# Altium schematic symbol library Basic.SchLib: 23 symbols
Pins are listed as number, name and electrical type; pins without a type are passive.

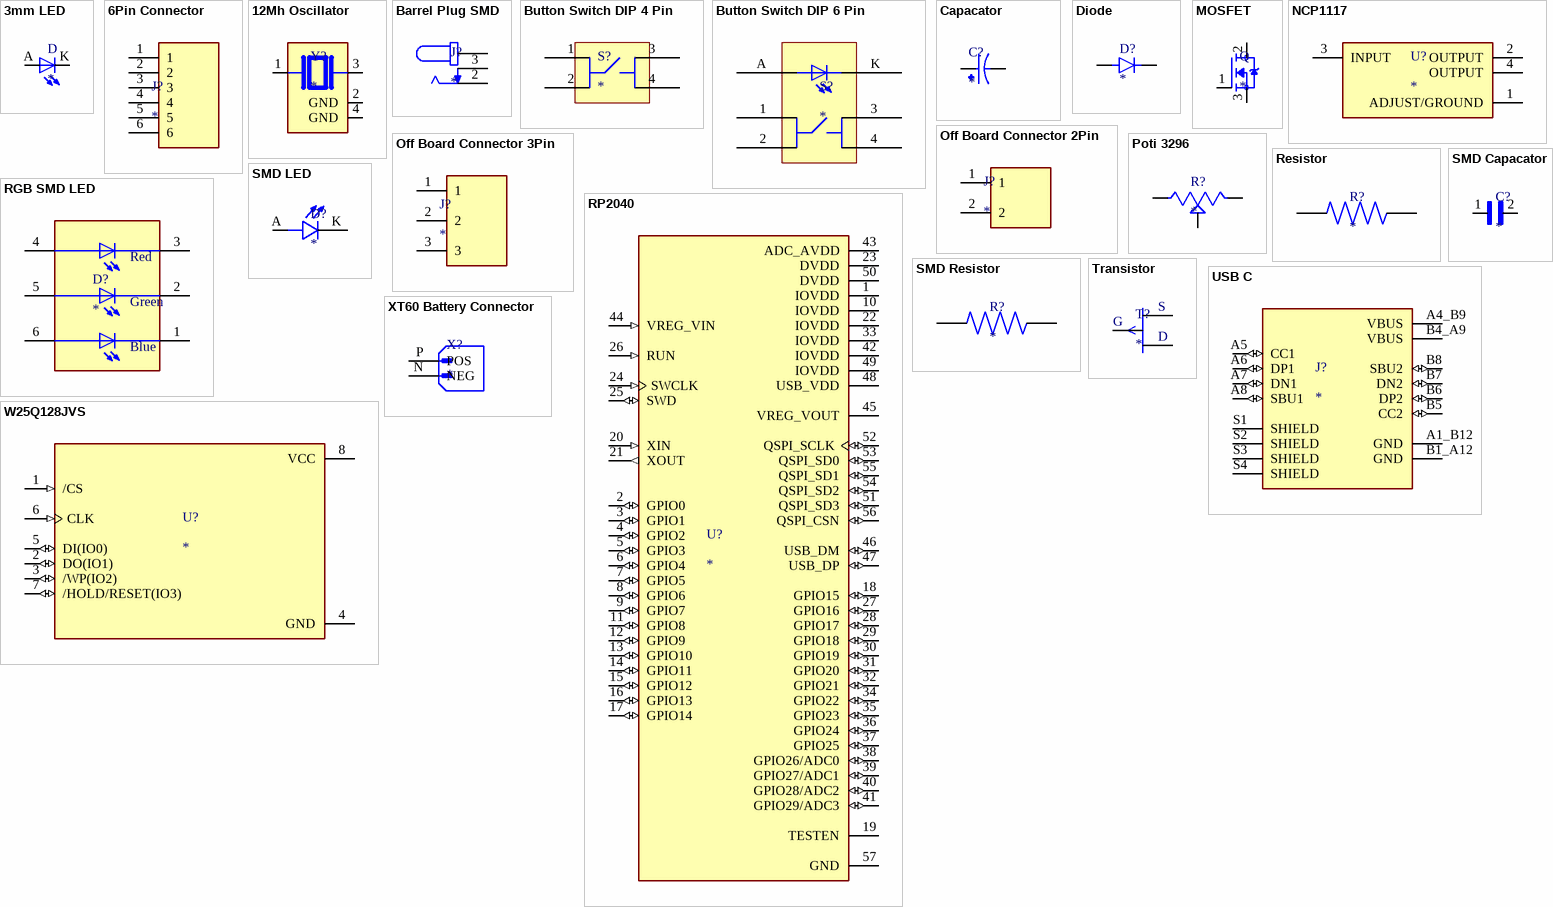
[diagram p0: symbols 3mm LED to XT60 Battery Connector]

## 3mm LED
designator D
Blue, Red, Yellow, Green, White
footprint 3mm LED (Blue, Red, Yellow, Green, White)
pins: A, K

## 6Pin Connector
designator J?
footprint 6Pin Connector
pins: 1, 2, 3, 4, 5, 6

## 12Mh Oscillator
designator Y?
footprint 12Mh Oscillator
pins: 1, 2 GND (power), 3 2, 4 GND (power)

## Barrel Plug SMD
designator J?
footprint Barrel Plug SMD
pins: 1A 1, 1B 1, 2, 3

## Button Switch DIP 4 Pin
designator S?
footprint Button Switch DIP 4 Pin
pins: 1, 2, 3, 4

## Button Switch DIP 6 Pin
designator S?
footprint Button Switch DIP 6 Pin
pins: 1, 2, 3, 4, A, K

## Capacator
designator C?
footprint Capacator
pins: N, P

## Diode
designator D?
footprint Diode
pins: A, K

## MOSFET
designator Q
footprint MOSFET
pins: 1 G, 2 D, 3 S

## NCP1117
designator U?
footprint NCP1117
pins: 1 ADJUST/GROUND, 2 OUTPUT (power), 3 INPUT (power), 4 OUTPUT (power)

## Off Board Connector 2Pin
designator J?
Screw Connector
footprint OFF BORAD CONNECTOR 2PIN
pins: 1, 2

## Off Board Connector 3Pin
designator J?
Screw Connector
footprint OFF BORAD CONNECTOR 3PIN
pins: 1, 2, 3

## Poti 3296
designator R?
footprint Poti 3296
pins: 1 CCW, 2 WIPER, 3 CW

## Resistor
designator R?
footprint Resistor
pins: 1, 2

## RGB SMD LED
designator D?
footprint SMD RGB LED
pins: 1, 2, 3, 4, 5, 6
text: Red; Green; Blue

## RP2040
designator U?
footprint RP2040
pins: 1 IOVDD (power), 2 GPIO0 (io), 3 GPIO1 (io), 4 GPIO2 (io), 5 GPIO3 (io), 6 GPIO4 (io), 7 GPIO5 (io), 8 GPIO6 (io), 9 GPIO7 (io), 10 IOVDD (power), 11 GPIO8 (io), 12 GPIO9 (io), 13 GPIO10 (io), 14 GPIO11 (io), 15 GPIO12 (io), 16 GPIO13 (io), 17 GPIO14 (io), 18 GPIO15 (io), 19 TESTEN, 20 XIN (in), 21 XOUT (out), 22 IOVDD (power), 23 DVDD (power), 24 SWCLK (in), 25 SWD (io), 26 RUN (in), 27 GPIO16 (io), 28 GPIO17 (io), 29 GPIO18 (io), 30 GPIO19 (io), 31 GPIO20 (io), 32 GPIO21 (io), 33 IOVDD (power), 34 GPIO22 (io), 35 GPIO23 (io), 36 GPIO24 (io), 37 GPIO25 (io), 38 GPIO26/ADC0 (io), 39 GPIO27/ADC1 (io), 40 GPIO28/ADC2 (io), 41 GPIO29/ADC3 (io), 42 IOVDD (power), 43 ADC_AVDD (power), 44 VREG_VIN (in), 45 VREG_VOUT (power), 46 USB_DM (io), 47 USB_DP (io), 48 USB_VDD (power), 49 IOVDD (power), 50 DVDD (power), 51 QSPI_SD3 (io), 52 QSPI_SCLK (io), 53 QSPI_SD0 (io), 54 QSPI_SD2 (io), 55 QSPI_SD1 (io), 56 QSPI_CSN (io), 57 GND (power)

## SMD Capacator
designator C?
footprint SMD Capacator
pins: 1, 2

## SMD LED
designator D?
footprint SMD LED
pins: A, K C

## SMD Resistor
designator R?
footprint SMD Resistor
pins: 1, 2

## Transistor
designator T?
footprint Transistor
pins: 1 S, 2 D, 3 G

## USB C
designator J?
footprint USB C
pins: A1_B12 GND (power), A4_B9 VBUS (power), A5 CC1 (io), A6 DP1 (io), A7 DN1 (io), A8 SBU1 (io), B1_A12 GND (power), B4_A9 VBUS (power), B5 CC2 (io), B6 DP2 (io), B7 DN2 (io), B8 SBU2 (io), S1 SHIELD, S2 SHIELD, S3 SHIELD, S4 SHIELD

## W25Q128JVS
designator U?
footprint W25Q128JVS
pins: 1 /CS (in), 2 DO(IO1) (io), 3 /WP(IO2) (io), 4 GND (power), 5 DI(IO0) (io), 6 CLK (in), 7 /HOLD/RESET(IO3) (io), 8 VCC (power)

## XT60 Battery Connector
designator X?
footprint XT60 Battery Connector
pins: N NEG, P POS